# EAGLE library part LMR33630ADDA (library Power Board Custom)
3A Voltage Regulator 400 KHz
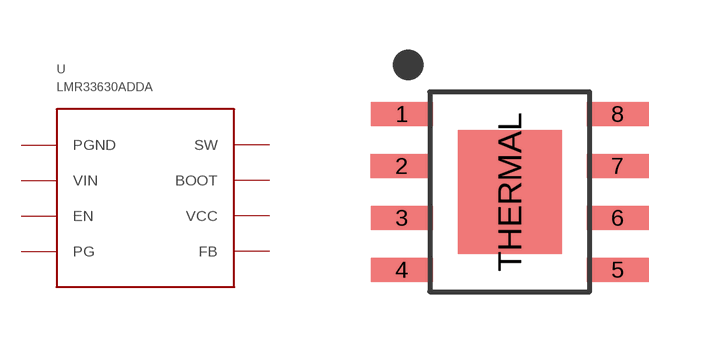
[diagram p5: symbol with the pads of HSOIC-8-POWERPAD; footprint HSOIC-8-POWERPAD]

Designator prefix U

## LMR33630ADDA  [HSOIC-8-POWERPAD]
1  PGND
2  VIN
3  EN
4  PG
5  FB
6  VCC
7  BOOT
8  SW
THERMAL  PGND

## Footprint HSOIC-8-POWERPAD (pad centres in mm)
HSOIC-8 with PowerPad
smd 1.55 x 0.6: 1 -2.7,1.95; 2 -2.7,0.65; 3 -2.7,-0.65; 4 -2.7,-1.95; 5 2.7,-1.95; 6 2.7,-0.65; 7 2.7,0.65; 8 2.7,1.95
smd 2.6 x 3.1: THERMAL 0,0